# Altium footprint library PMIC.PcbLib: 10 footprints
Each footprint in its own frame and in the unit in brackets; x right, y up, seen from the top. Pads: shape width x height; smd on the part's side, far side on the other; paste and mask are expansions set on the pad; w line width, h text height; cw(c..) or ccw(c..) is an arc to the next point about the centre after c.
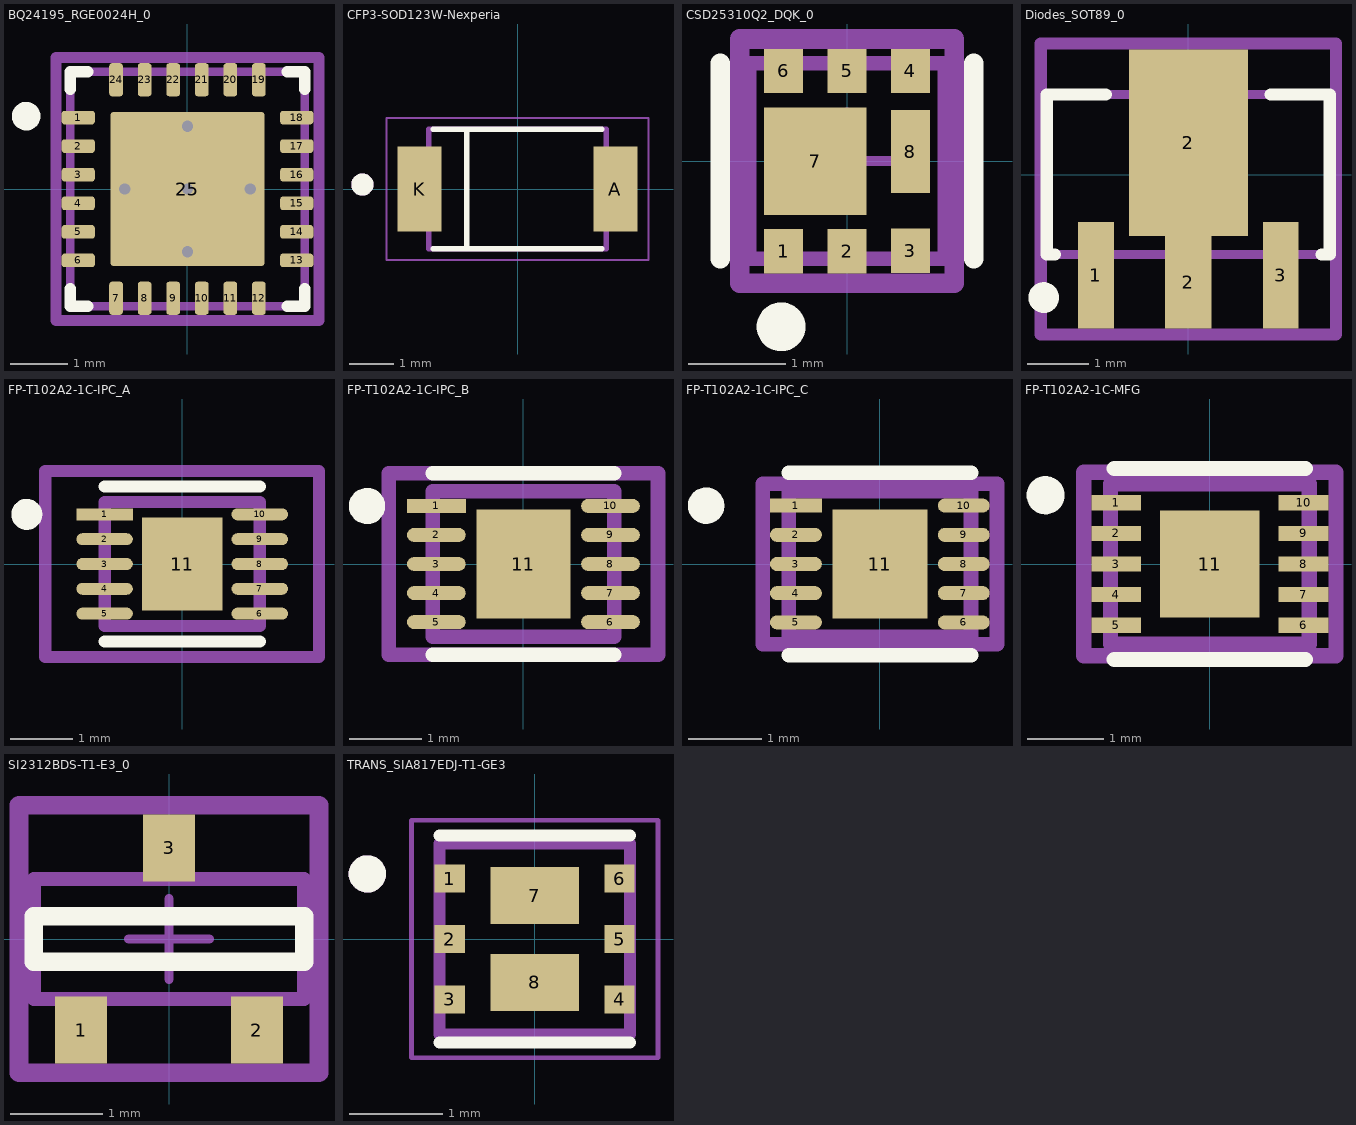
[diagram p0: the footprints below, top view; thin cyan lines are the x and y axes]

## BQ24195_RGE0024H_0 [mm] "VQFN-24"
height 1
pads (25):
  rrect42% 0.58x0.24 smd paste+0 mask+0: 1(-1.913,1.25) 2(-1.913,0.75) 3(-1.913,0.25) 4(-1.913,-0.25) 5(-1.913,-0.75) 6(-1.913,-1.25) 13(1.913,-1.25) 14(1.913,-0.75) 15(1.913,-0.25) 16(1.913,0.25) 17(1.913,0.75) 18(1.913,1.25)
  rrect42% 0.24x0.58 smd paste+0 mask+0: 7(-1.25,-1.913) 8(-0.75,-1.913) 9(-0.25,-1.913) 10(0.25,-1.913) 11(0.75,-1.913) 12(1.25,-1.913) 19(1.25,1.913) 20(0.75,1.913) 21(0.25,1.913) 22(-0.25,1.913) 23(-0.75,1.913) 24(-1.25,1.913)
  rrect4% 2.7x2.7 smd paste-1000 mask+0: 25(0,0)
via 0,-1.1 diameter 0.3 hole 0.2
via 0,1.1 diameter 0.3 hole 0.2
via 1.1,0 diameter 0.3 hole 0.2
via 0,0 diameter 0.3 hole 0.2
via -1.1,0 diameter 0.3 hole 0.2
Top Overlay:
  circle w0.25: c-2.825,1.275 r0.125
  lines w0.2: -2.05,-1.745 -2.05,-2.05 -1.745,-2.05 ; -2.05,1.745 -2.05,2.05 -1.745,2.05 ; 1.745,-2.05 2.05,-2.05 2.05,-1.745 ; 1.745,2.05 2.05,2.05 2.05,1.745
Top Paste:
  region: 0.15,-1.288 0.14,-1.288 0.122,-1.28 0.108,-1.266 0.1,-1.248 0.1,-1.238 0.1,-0.15 0.1,-0.14 0.108,-0.122 0.122,-0.108 0.14,-0.1 0.15,-0.1 1.238,-0.1 1.248,-0.1 1.266,-0.108 1.28,-0.122 1.288,-0.14 1.288,-0.15 1.288,-1.238 1.288,-1.248 1.28,-1.266 1.266,-1.28 1.248,-1.288 1.238,-1.288
  region: -0.1,-0.15 -0.1,-1.238 -0.1,-1.248 -0.108,-1.266 -0.122,-1.28 -0.14,-1.288 -0.15,-1.288 -1.238,-1.288 -1.248,-1.288 -1.266,-1.28 -1.28,-1.266 -1.288,-1.248 -1.288,-1.238 -1.288,-0.15 -1.288,-0.14 -1.28,-0.122 -1.266,-0.108 -1.248,-0.1 -1.238,-0.1 -0.15,-0.1 -0.14,-0.1 -0.122,-0.108 -0.108,-0.122 -0.1,-0.14
  region: 0.1,0.15 0.1,1.238 0.1,1.248 0.108,1.266 0.122,1.28 0.14,1.288 0.15,1.288 1.238,1.288 1.248,1.288 1.266,1.28 1.28,1.266 1.288,1.248 1.288,1.238 1.288,0.15 1.288,0.14 1.28,0.122 1.266,0.108 1.248,0.1 1.238,0.1 0.15,0.1 0.14,0.1 0.122,0.108 0.108,0.122 0.1,0.14
  region: -0.1,0.15 -0.1,0.14 -0.108,0.122 -0.122,0.108 -0.14,0.1 -0.15,0.1 -1.238,0.1 -1.248,0.1 -1.266,0.108 -1.28,0.122 -1.288,0.14 -1.288,0.15 -1.288,1.238 -1.288,1.248 -1.28,1.266 -1.266,1.28 -1.248,1.288 -1.238,1.288 -0.15,1.288 -0.14,1.288 -0.122,1.28 -0.108,1.266 -0.1,1.248 -0.1,1.238
Mechanical 10:
  lines w0.2: -2.302,-2.302 -2.302,2.302 2.302,2.302 2.302,-2.302 -2.302,-2.302
  text ".Designator" at 0,0 h1
Mechanical 12:
  lines w0.15: -2.05,-2.05 -2.05,2.05 2.05,2.05 2.05,-2.05 -2.05,-2.05
Mechanical 15:
  lines w0.1: -0.5,0 0.5,0 ; 0,-0.5 0,0.5
  lines w0.2: -2.302,-2.302 -2.302,2.302 2.302,2.302 2.302,-2.302 -2.302,-2.302
3D body "BQ24195RGER_eec.STEP": height 1, standoff 0, extent -2,-1.998 2,2.002

## CFP3-SOD123W-Nexperia [mm] "plastic, surface mounted package; 2 terminals; 2.6 mm x 1.7  mm x 1 mm body"
height 2.1
pads (2):
  rect 0.99x1.92 smd: A(2.21,0) K(-2.21,0)
Top Overlay:
  circle w0.3: c-3.5,0.1 r0.1
  lines w0.127: -1.9,-1.35 1.9,-1.35 ; -1.9,1.35 1.9,1.35 ; -1.143,-1.27 -1.143,1.27
Mechanical 13:
  circle w0.3: c-3.5,0.1 r0.1
  lines w0.127: -2,-1.35 -2,1.35 2,1.35 2,-1.35 -2,-1.35
Mechanical 15:
  lines w0.05: -2.955,-1.6 -2.955,1.6 2.955,1.6 2.955,-1.6 -2.955,-1.6

## CSD25310Q2_DQK_0 [mm] "CSD25310Q2 20 V P-Channel NexFET™ Power MOSFETs"
height 1
pads (8):
  rect 0.4x0.455 smd paste-1000 mask+0: 1(-0.65,-0.922) 2(0,-0.922) 3(0.65,-0.92) 4(0.65,0.923) 5(0,0.923) 6(-0.65,0.923)
  rect 1.05x1.1 smd paste-1000 mask+0: 7(-0.325,0)
  rect 0.4x0.85 smd paste-1000 mask+0: 8(0.65,0.096)
Top Overlay:
  circle w0.25: c-0.675,-1.697 r0.125
  lines w0.2: -1.3,-1 -1.3,1 ; 1.3,-1 1.3,1
Top Paste:
  rectangle: -0.8,-1.09 -0.5,-0.75
  rectangle: 0.5,-1.092 0.8,-0.752
  rectangle: 0.5,0.75 0.8,1.09
  rectangle: -0.8,0.75 -0.5,1.09
  rectangle: -0.15,0.75 0.15,1.09
  rectangle: -0.15,-1.09 0.15,-0.75
  rectangle: 0.5,-0.279 0.8,0.471
  rectangle: -0.8,-0.5 0.15,0.5
Mechanical 10:
  lines w0.2: -1.1,-1.25 1.1,-1.25 1.1,1.25 -1.1,1.25 -1.1,-1.25
  text ".Designator" at 0,0 h1
Mechanical 12:
  lines w0.15: -1,-1 1,-1 1,1 -1,1 -1,-1
Mechanical 15:
  lines w0.1: -0.5,0 0.5,0 ; -0.33,0 0.33,0 ; 0,-0.5 0,0.5 ; 0,-0.33 0,0.33
  lines w0.2: -1.1,-1.25 1.1,-1.25 1.1,1.25 -1.1,1.25 -1.1,-1.25
3D body "3dmodel.step": height 0.25, standoff 0, extent -1.1,-1.25 1.1,1.25

## Diodes_SOT89_0 [mm] "The AP7215 low-dropout linear regulator operates from a 3.3V to 5.5V supply and delivers a guaranteed 600mA continuous load current."
height 1
pads (4):
  rect 0.58x1.73 smd paste+0 mask+0: 1(-1.5,-1.635) 3(1.5,-1.635)
  rect 0.76x1.5 smd paste+0 mask+0: 2(0,-1.75)
  rect 1.933x3.03 smd paste+0 mask+0: 2(0,0.515)
Top Overlay:
  circle w0.25: c-2.35,-2 r0.125
  lines w0.2: -2.165,-1.3 -2.3,-1.3 -2.3,1.3 -1.342,1.3 ; 1.342,1.3 2.3,1.3 2.3,-1.3 2.165,-1.3
Mechanical 10:
  lines w0.2: -2.4,-2.6 -2.4,2.13 2.4,2.13 2.4,-2.6 -2.4,-2.6
  text ".Designator" at 0,-0.235 h1
Mechanical 12:
  lines w0.15: -2.3,-1.3 -2.3,1.3 2.3,1.3 2.3,-1.3 -2.3,-1.3
Mechanical 15:
  lines w0.1: -0.5,0 0.5,0 ; 0,-0.5 0,0.5
  lines w0.2: -2.4,-2.6 -2.4,2.13 2.4,2.13 2.4,-2.6 -2.4,-2.6
3D body "IC_Diodes_AP7215-33YG-13_eec.STEP": height 0.25, standoff 0, extent -2.4,-2.6 2.4,2.13

## FP-T102A2-1C-IPC_A [mm]
pads (11):
  rect 0.911x0.192 smd paste+0 mask+0: 1(-1.251,0.8)
  rrect100% 0.911x0.192 smd paste+0 mask+0: 2(-1.251,0.4) 3(-1.251,0) 4(-1.251,-0.4) 5(-1.251,-0.8) 6(1.251,-0.8) 7(1.251,-0.4) 8(1.251,0) 9(1.251,0.4) 10(1.251,0.8)
  rect 1.3x1.5 smd paste-1000 mask+0: 11(0,0)
Top Overlay:
  circle w0.25: c-2.506,0.8 r0.125
  lines w0.2: -1.25,-1.25 1.25,-1.25 ; -1.25,1.25 1.25,1.25
Top Paste:
  rectangle: -0.394,-0.494 0.394,0.494
Mechanical 5:
  lines w0.2: -2.206,-1.5 -2.206,1.5 2.206,1.5 2.206,-1.5 -2.206,-1.5
  text ".Designator" at 0,-0.001 h1
Mechanical 13:
  lines w0.2: -1.25,-1 -1.25,1 1.25,1 1.25,-1 -1.25,-1
Mechanical 15:
  lines w0.2: -2.206,-1.5 -2.206,1.5 2.206,1.5 2.206,-1.5 -2.206,-1.5
Mechanical 16:
  lines w0.1: -0.5,0 0.5,0 ; 0,-0.5 0,0.5
3D body "IC_Maxim_Integrated_MAX17055ETB+T_eec.STEP": height 0.25, standoff 0, extent -2.206,-1.5 2.206,1.5

## FP-T102A2-1C-IPC_B [mm]
pads (11):
  rect 0.811x0.192 smd paste+0 mask+0: 1(-1.201,0.8)
  rrect100% 0.811x0.192 smd paste+0 mask+0: 2(-1.201,0.4) 3(-1.201,0) 4(-1.201,-0.4) 5(-1.201,-0.8) 6(1.201,-0.8) 7(1.201,-0.4) 8(1.201,0) 9(1.201,0.4) 10(1.201,0.8)
  rect 1.3x1.5 smd paste-1000 mask+0: 11(0,0)
Top Overlay:
  circle w0.25: c-2.156,0.8 r0.125
  lines w0.2: -1.25,-1.25 1.25,-1.25 ; -1.25,1.25 1.25,1.25
Top Paste:
  rectangle: -0.394,-0.494 0.394,0.494
Mechanical 5:
  lines w0.2: -1.856,-1.25 1.856,-1.25 1.856,1.25 -1.856,1.25 -1.856,-1.25
  text ".Designator" at 0,-0.001 h1
Mechanical 13:
  lines w0.2: -1.25,-1 1.25,-1 1.25,1 -1.25,1 -1.25,-1
Mechanical 15:
  lines w0.2: -1.856,-1.25 1.856,-1.25 1.856,1.25 -1.856,1.25 -1.856,-1.25
Mechanical 16:
  lines w0.1: -0.5,0 0.5,0 ; 0,-0.5 0,0.5
3D body "IC_Maxim_Integrated_MAX17055ETB+T_eec.STEP": height 0.25, standoff 0, extent -1.856,-1.25 1.856,1.25

## FP-T102A2-1C-IPC_C [mm]
pads (11):
  rect 0.711x0.192 smd paste+0 mask+0: 1(-1.151,0.8)
  rrect100% 0.711x0.192 smd paste+0 mask+0: 2(-1.151,0.4) 3(-1.151,0) 4(-1.151,-0.4) 5(-1.151,-0.8) 6(1.151,-0.8) 7(1.151,-0.4) 8(1.151,0) 9(1.151,0.4) 10(1.151,0.8)
  rect 1.3x1.5 smd paste-1000 mask+0: 11(0,0)
Top Overlay:
  circle w0.25: c-2.381,0.8 r0.125
  lines w0.2: -1.25,-1.25 1.25,-1.25 ; -1.25,1.25 1.25,1.25
Top Paste:
  rectangle: -0.394,-0.494 0.394,0.494
Mechanical 5:
  lines w0.2: -1.606,-1.1 1.606,-1.1 1.606,1.1 -1.606,1.1 -1.606,-1.1
  text ".Designator" at 0,-0.001 h1
Mechanical 13:
  lines w0.2: -1.25,-1 1.25,-1 1.25,1 -1.25,1 -1.25,-1
Mechanical 15:
  lines w0.2: -1.606,-1.1 1.606,-1.1 1.606,1.1 -1.606,1.1 -1.606,-1.1
Mechanical 16:
  lines w0.1: -0.5,0 0.5,0 ; 0,-0.5 0,0.5
3D body "IC_Maxim_Integrated_MAX17055ETB+T_eec.STEP": height 0.25, standoff 0, extent -1.606,-1.1 1.606,1.1

## FP-T102A2-1C-MFG [mm]
pads (11):
  rect 0.65x0.2 smd paste+0 mask+0: 1(-1.225,0.8) 2(-1.225,0.4) 3(-1.225,0) 4(-1.225,-0.4) 5(-1.225,-0.8) 6(1.225,-0.8) 7(1.225,-0.4) 8(1.225,0) 9(1.225,0.4) 10(1.225,0.8)
  rect 1.3x1.4 smd paste+0 mask+0: 11(0,0)
Top Overlay:
  circle w0.25: c-2.15,0.9 r0.125
  lines w0.2: -1.25,-1.25 1.25,-1.25 ; -1.25,1.25 1.25,1.25
Mechanical 5:
  lines w0.2: -1.65,-1.2 1.65,-1.2 1.65,1.2 -1.65,1.2 -1.65,-1.2
  text ".Designator" at 0,0.188 h1
Mechanical 13:
  lines w0.2: -1.3,-1.05 1.3,-1.05 1.3,1.05 -1.3,1.05 -1.3,-1.05
Mechanical 15:
  lines w0.2: -1.65,-1.2 1.65,-1.2 1.65,1.2 -1.65,1.2 -1.65,-1.2
Mechanical 16:
  lines w0.1: -0.5,0 0.5,0 ; 0,-0.5 0,0.5
3D body "IC_Maxim_Integrated_MAX17055ETB+T_eec.STEP": height 0.25, standoff 0, extent -1.65,-1.2 1.65,1.2

## SI2312BDS-T1-E3_0 [mm] "N-Channel 20 V (D-S) MOSFET"
height 1
pads (3):
  rect 0.559x0.724 smd paste+0 mask+0: 1(-0.95,-0.984) 2(0.95,-0.984) 3(0,0.984)
Top Overlay:
  lines w0.2: -1.46,-0.248 -1.46,0.248 1.46,0.248 1.46,-0.248 -1.46,-0.248
Mechanical 10:
  lines w0.2: -1.62,-1.446 -1.62,1.446 1.62,1.446 1.62,-1.446 -1.62,-1.446
  text ".Designator" at 0,0 h1
Mechanical 12:
  lines w0.15: -1.46,-0.65 -1.46,0.65 1.46,0.65 1.46,-0.65 -1.46,-0.65
Mechanical 15:
  lines w0.1: -0.434,0 0.434,0 ; 0,-0.434 0,0.434
  lines w0.2: -1.62,-1.446 -1.62,1.446 1.62,1.446 1.62,-1.446 -1.62,-1.446
3D body "Trans_Vishay_SI2312BDS-T1-E3_eec.STEP": height 0.25, standoff 0, extent -1.62,-1.446 1.62,1.446

## TRANS_SIA817EDJ-T1-GE3 [mm] "P-Channel 30V 4.5A (Tc) 1.9W (Ta), 6.5W (Tc) Surface Mount"
pads (8):
  rect 0.325x0.3 smd: 1(-0.913,0.65) 2(-0.913,0) 3(-0.913,-0.65) 4(0.913,-0.65) 5(0.913,0) 6(0.913,0.65)
  rect 0.95x0.613 smd paste-1: 7(0,0.466) 8(0,-0.466)
Top Overlay:
  circle w0.2: c-1.8,0.7 r0.1
  lines w0.127: -1.025,-1.114 1.025,-1.114 ; -1.025,1.114 1.025,1.114
Top Paste:
  region: 0.3,-0.667 -0.3,-0.667 -0.3,-0.266 0.3,-0.266
  region: 0.3,0.266 -0.3,0.266 -0.3,0.667 0.3,0.667
Mechanical 13:
  circle w0.2: c-1.8,0.7 r0.1
  lines w0.127: -1.025,-1.025 -1.025,1.025 1.025,1.025 1.025,-1.025 -1.025,-1.025
Mechanical 15:
  lines w0.05: -1.325,-1.275 -1.325,1.275 1.325,1.275 1.325,-1.275 -1.325,-1.275